# Altium footprint library Transformers_sizes.PcbLib: 7 footprints
Each footprint in its own frame and in the unit in brackets; x right, y up, seen from the top. Pads: shape width x height; smd on the part's side, far side on the other; paste and mask are expansions set on the pad; w line width, h text height; cw(c..) or ccw(c..) is an arc to the next point about the centre after c.
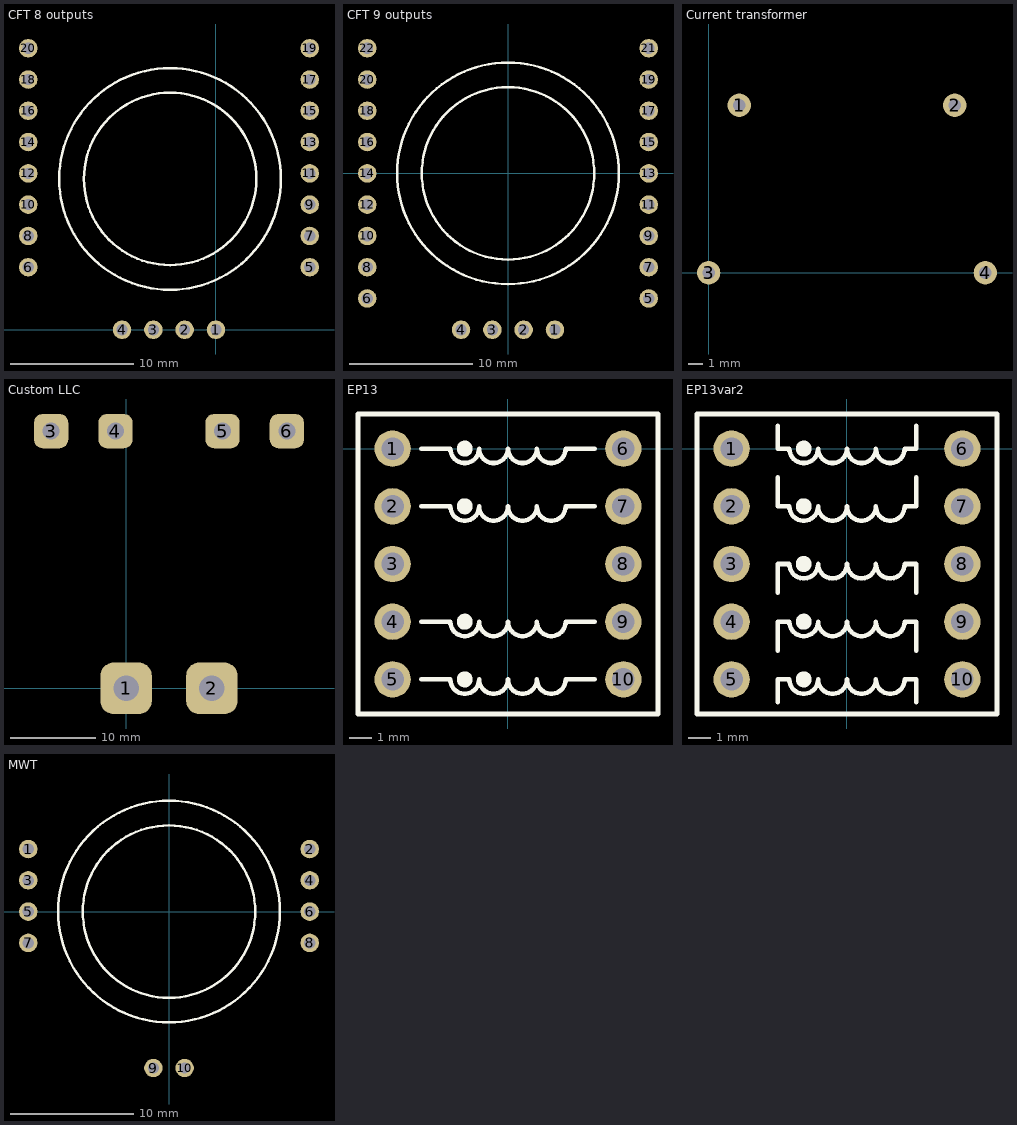
[diagram p0: the footprints below, top view; thin cyan lines are the x and y axes]

## CFT 8 outputs [mm]
pads (20):
  round 1.5 hole 0.9: 1(0,0) 2(-2.54,0) 3(-5.08,0) 4(-7.62,0) 5(7.62,5.08) 6(-15.24,5.08) 7(7.62,7.62) 8(-15.24,7.62) 9(7.62,10.16) 10(-15.24,10.16) 11(7.62,12.7) 12(-15.24,12.7) 13(7.62,15.24) 14(-15.24,15.24) 15(7.62,17.78) 16(-15.24,17.78) 17(7.62,20.32) 18(-15.24,20.32) 19(7.62,22.86) 20(-15.24,22.86)
Top Overlay:
  circle w0.2: c-3.72,12.25 r7
  circle w0.2: c-3.72,12.25 r9
3D body: height 8, standoff 0, extent -11.72,4.25 4.28,20.25

## CFT 9 outputs [mm]
pads (22):
  round 1.5 hole 0.9: 1(3.81,-12.7) 2(1.27,-12.7) 3(-1.27,-12.7) 4(-3.81,-12.7) 5(11.43,-10.16) 6(-11.43,-10.16) 7(11.43,-7.62) 8(-11.43,-7.62) 9(11.43,-5.08) 10(-11.43,-5.08) 11(11.43,-2.54) 12(-11.43,-2.54) 13(11.43,0) 14(-11.43,0) 15(11.43,2.54) 16(-11.43,2.54) 17(11.43,5.08) 18(-11.43,5.08) 19(11.43,7.62) 20(-11.43,7.62) 21(11.43,10.16) 22(-11.43,10.16)
Top Overlay:
  circle w0.2: c0,0 r9
  circle w0.2: c0,0 r7
3D body "Transf_55x7.x_t": height 15.86, standoff -7.94, extent -12.94,-14.21 12.92,12.99

## Current transformer [mm]
pads (4):
  round 1.6 hole 0.85: 1(2.1,11.5) 2(16.9,11.5) 3(0,0) 4(19,0)
3D body "CT_cutleg.SLDPRT": height 25.02, standoff -2.47, extent -2.75,-0.5 21.75,12

## Custom LLC [mm]
pads (6):
  rrect50% 6x6 hole 3: 1(0,0) 2(10,0)
  rrect50% 4x4 hole 2: 3(-8.75,30) 4(-1.25,30) 5(11.25,30) 6(18.75,30)
3D body "PC95PQ4040Z.STEP": height 40, standoff 0, extent -15,-2.5 25,32.5

## EP13 [mm]
pads (10):
  round 1.6 hole 1: 1(-5.08,0) 2(-5.08,-2.54) 3(-5.08,-5.08) 4(-5.08,-7.62) 5(-5.08,-10.16) 6(5.08,0) 7(5.08,-2.54) 8(5.08,-5.08) 9(5.08,-7.62) 10(5.08,-10.16)
Top Overlay:
  circle w0.4: c-1.905,-10.16 r0.15
  circle w0.4: c-1.905,-7.62 r0.15
  circle w0.4: c-1.905,-2.54 r0.15
  circle w0.4: c-1.905,0 r0.15
  lines w0.2: -3.81,-10.16 -2.54,-10.16 ccw(c-1.905,-10.16) -1.27,-10.16 ccw(c-0.635,-10.16) 0,-10.16 ccw(c0.635,-10.16) 1.27,-10.16 ccw(c1.905,-10.16) 2.54,-10.16 3.81,-10.16 ; -3.81,-7.62 -2.54,-7.62 ccw(c-1.905,-7.62) -1.27,-7.62 ccw(c-0.635,-7.62) 0,-7.62 ccw(c0.635,-7.62) 1.27,-7.62 ccw(c1.905,-7.62) 2.54,-7.62 3.81,-7.62 ; -3.81,-2.54 -2.54,-2.54 ccw(c-1.905,-2.54) -1.27,-2.54 ccw(c-0.635,-2.54) 0,-2.54 ccw(c0.635,-2.54) 1.27,-2.54 ccw(c1.905,-2.54) 2.54,-2.54 3.81,-2.54 ; -3.81,0 -2.54,0 ccw(c-1.905,0) -1.27,0 ccw(c-0.635,0) 0,0 ccw(c0.635,0) 1.27,0 ccw(c1.905,0) 2.54,0 3.81,0 ; -6.604,-11.684 -6.604,1.524 6.604,1.524 6.604,-11.684 -6.604,-11.684
3D body "User Library-EP13.STEP": height 12.4, standoff -4, extent -6.501,-11.578 6.501,1.424

## EP13var2 [mm]
pads (10):
  round 1.6 hole 1: 1(-5.08,0) 2(-5.08,-2.54) 3(-5.08,-5.08) 4(-5.08,-7.62) 5(-5.08,-10.16) 6(5.08,0) 7(5.08,-2.54) 8(5.08,-5.08) 9(5.08,-7.62) 10(5.08,-10.16)
Top Overlay:
  circle w0.4: c-1.905,-5.08 r0.15
  circle w0.4: c-1.905,-10.16 r0.15
  circle w0.4: c-1.905,-7.62 r0.15
  circle w0.4: c-1.905,-2.54 r0.15
  circle w0.4: c-1.905,0 r0.15
  lines w0.2: -3.048,-11.176 -3.048,-10.16 -2.54,-10.16 ccw(c-1.905,-10.16) -1.27,-10.16 ccw(c-0.635,-10.16) 0,-10.16 ccw(c0.635,-10.16) 1.27,-10.16 ccw(c1.905,-10.16) 2.54,-10.16 3.048,-10.16 3.048,-11.176 ; -3.048,-8.89 -3.048,-7.62 -2.54,-7.62 ccw(c-1.905,-7.62) -1.27,-7.62 ccw(c-0.635,-7.62) 0,-7.62 ccw(c0.635,-7.62) 1.27,-7.62 ccw(c1.905,-7.62) 2.54,-7.62 3.048,-7.62 3.048,-8.89 ; -3.048,-6.35 -3.048,-5.08 -2.54,-5.08 ccw(c-1.905,-5.08) -1.27,-5.08 ccw(c-0.635,-5.08) 0,-5.08 ccw(c0.635,-5.08) 1.27,-5.08 ccw(c1.905,-5.08) 2.54,-5.08 3.048,-5.08 3.048,-6.35 ; -3.048,-1.27 -3.048,-2.54 -2.54,-2.54 ccw(c-1.905,-2.54) -1.27,-2.54 ccw(c-0.635,-2.54) 0,-2.54 ccw(c0.635,-2.54) 1.27,-2.54 ccw(c1.905,-2.54) 2.54,-2.54 3.048,-2.54 3.048,-1.27 ; -3.048,1.016 -3.048,0 -2.54,0 ccw(c-1.905,0) -1.27,0 ccw(c-0.635,0) 0,0 ccw(c0.635,0) 1.27,0 ccw(c1.905,0) 2.54,0 3.048,0 3.048,1.016 ; -6.604,-11.684 -6.604,1.524 6.604,1.524 6.604,-11.684 -6.604,-11.684
3D body "User Library-EP13.STEP": height 12.4, standoff -4, extent -6.501,-11.578 6.501,1.424

## MWT [mm]
pads (10):
  round 1.5 hole 0.9: 1(-11.43,5.08) 2(11.43,5.08) 3(-11.43,2.54) 4(11.43,2.54) 5(-11.43,0) 6(11.43,0) 7(-11.43,-2.54) 8(11.43,-2.54) 9(-1.27,-12.7) 10(1.27,-12.7)
Top Overlay:
  circle w0.2: c0,0 r9
  circle w0.2: c0,0 r7
3D body "Transf_10x10.x_t": height 15.03, standoff -7.97, extent -12.305,-14.12 12.525,8.5